# EAGLE library part ARDUINO_PRO_MINI_CUSTOM (library myrx4)
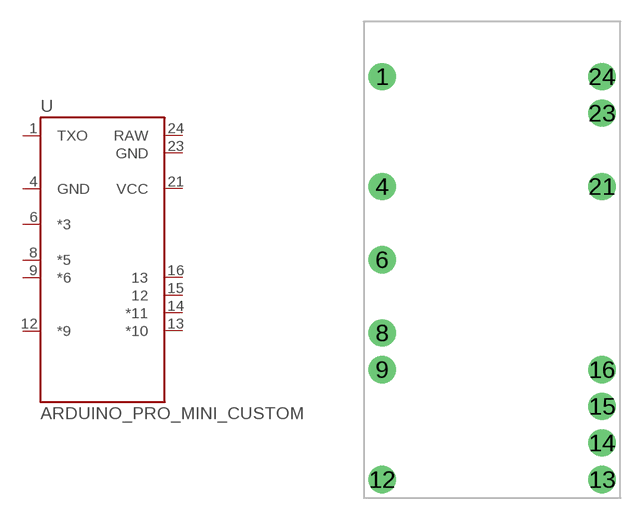
[diagram p2: symbol with the pads of ARDUINO_PRO_MINI_CUSTOM; footprint ARDUINO_PRO_MINI_CUSTOM]

Designator prefix -

## ARDUINO_PRO_MINI_CUSTOM  [ARDUINO_PRO_MINI_CUSTOM]
1  TXO
4  GND
6  *3
8  *5
9  *6
12  *9
13  *10
14  *11
15  12
16  13
21  VCC
23  GND
24  RAW

## Footprint ARDUINO_PRO_MINI_CUSTOM (pad centres in mm)
drill 1.016 pad 1.88: 1 -7.62,12.7; 4 -7.62,5.08; 6 -7.62,0; 8 -7.62,-5.08; 9 -7.62,-7.62; 12 -7.62,-15.24; 13 7.62,-15.24; 14 7.62,-12.7; 15 7.62,-10.16; 16 7.62,-7.62; 21 7.62,5.08; 23 7.62,10.16; 24 7.62,12.7